# EAGLE library part LSM9DS1 (library Sensors)
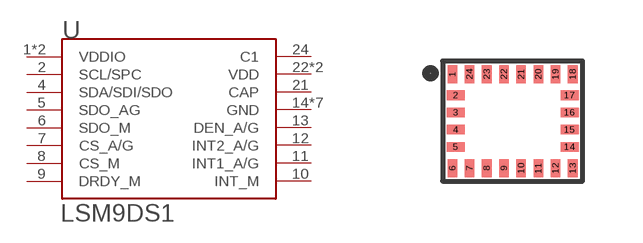
[diagram p7: symbol with the pads of LGA-24L-3.5X3X1; footprint LGA-24L-3.5X3X1]

Designator prefix -

## LSM9DS1  [LGA-24L-3.5X3X1]
1  VDDIO
2  SCL/SPC
3  VDDIO
4  SDA/SDI/SDO
5  SDO_AG
6  SDO_M
7  CS_A/G
8  CS_M
9  DRDY_M
10  INT_M
11  INT1_A/G
12  INT2_A/G
13  DEN_A/G
14  GND
15  GND
16  GND
17  GND
18  GND
19  GND
20  GND
21  CAP
22  VDD
23  VDD
24  C1

## Footprint LGA-24L-3.5X3X1 (pad centres in mm)
smd 0.24 x 0.45: 1 0.245,2.675; 6 0.245,0.325; 7 0.675,0.325; 8 1.105,0.325; 9 1.535,0.325; 10 1.965,0.325; 11 2.395,0.325; 12 2.825,0.325; 13 3.255,0.325; 18 3.255,2.675; 19 2.825,2.675; 20 2.395,2.675; 21 1.965,2.675; 22 1.535,2.675; 23 1.105,2.675; 24 0.675,2.675
smd 0.45 x 0.24: 2 0.325,2.145; 3 0.325,1.715; 4 0.325,1.285; 5 0.325,0.855; 14 3.175,0.855; 15 3.175,1.285; 16 3.175,1.715; 17 3.175,2.145